# EAGLE library part LM34923MM/NOPB (library pow)
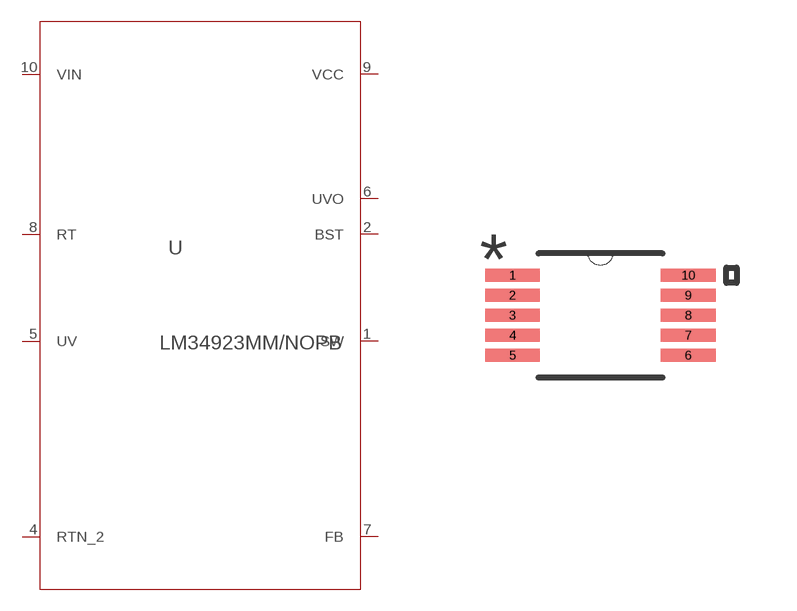
[diagram p0: symbol with the pads of MUB10A; footprint MUB10A]

Designator prefix -

## LM34923MM/NOPB (DATASHEETURL: http://www.ti.com/product/lm34923; FREQUENCY: 800000.0; IMAX: 0.6; MANUFACTURER_NAME: Texas Instruments; MANUFACTURER_PART_NUMBER: LM34923MM/NOPB; MKTG_PACKAGE: NA; NSID: LM34923MM/NOPB; PACKAGE: NA; VENDOR: Texas Instruments)  [MUB10A]
1  SW  pas
2  BST  pas
4  RTN_2  pas
5  UV  pas
6  UVO  pas
7  FB  pas
8  RT  pas
9  VCC  pas
10  VIN  pas

## Footprint MUB10A (pad centres in mm)
smd 1.372 x 0.33: 1 -2.197,1; 2 -2.197,0.5; 3 -2.197,0; 4 -2.197,-0.5; 5 -2.197,-1; 6 2.197,-1; 7 2.197,-0.5; 8 2.197,0; 9 2.197,0.5; 10 2.197,1